# Altium footprint library DS28E07&plus_T.PcbLib: 1 footprints
Each footprint in its own frame and in the unit in brackets; x right, y up, seen from the top. Pads: shape width x height; smd on the part's side, far side on the other; paste and mask are expansions set on the pad; w line width, h text height; cw(c..) or ccw(c..) is an arc to the next point about the centre after c.
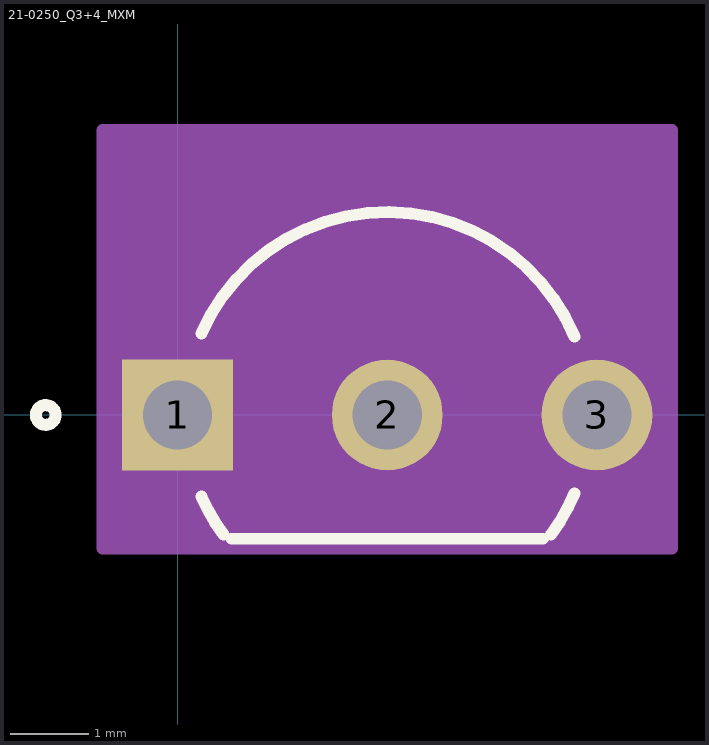
[diagram p0: the footprint, top view; thin cyan lines are the x and y axes]

## 21-0250_Q3+4_MXM [mil]
pads (3):
  rect 56x56 hole 35 paste-28 mask+0: 1(0,0)
  round 56 hole 35 paste-28 mask+0: 2(105.91,0) 3(211.81,0)
Top Overlay:
  circle w6: c-66.59,0 r5
  lines w6: 12.01,-41.1 ccw(c105.91,0) 23.13,-60.45 ; 12.01,41.1 cw(c105.91,0) 200.49,39.51 ; 27.17,-62.5 184.65,-62.5 ; 188.68,-60.45 ccw(c105.91,0) 200.49,-39.51
  text ".Designator" at -31.59,-25 h50
Mechanical 13:
  circle w1: c18.41,0 r5
  lines w1: 27.17,-57.5 184.65,-57.5 ccw(c105.91,0) 27.17,-57.5
  lines w6: -10,0 10,0 ; 0,-10 0,10
  text ".Designator" at -31.59,-25 h50
Mechanical 15:
  region: 249.81,-67.5 -38,-67.5 -38,143.91 249.81,143.91
  lines w6: -38,-67.5 -38,143.91 249.81,143.91 249.81,-67.5 -38,-67.5
3D body "21-0250_Q3+4_MXM.step": height 195, standoff -200, extent -12.48,-37.48 224.29,97.5